# Altium footprint library MB631.PcbLib: 50 footprints (part 3 of 4)
Each footprint in its own frame and in the unit in brackets; x right, y up, seen from the top. Pads: shape width x height; smd on the part's side, far side on the other; paste and mask are expansions set on the pad; w line width, h text height; cw(c..) or ccw(c..) is an arc to the next point about the centre after c.
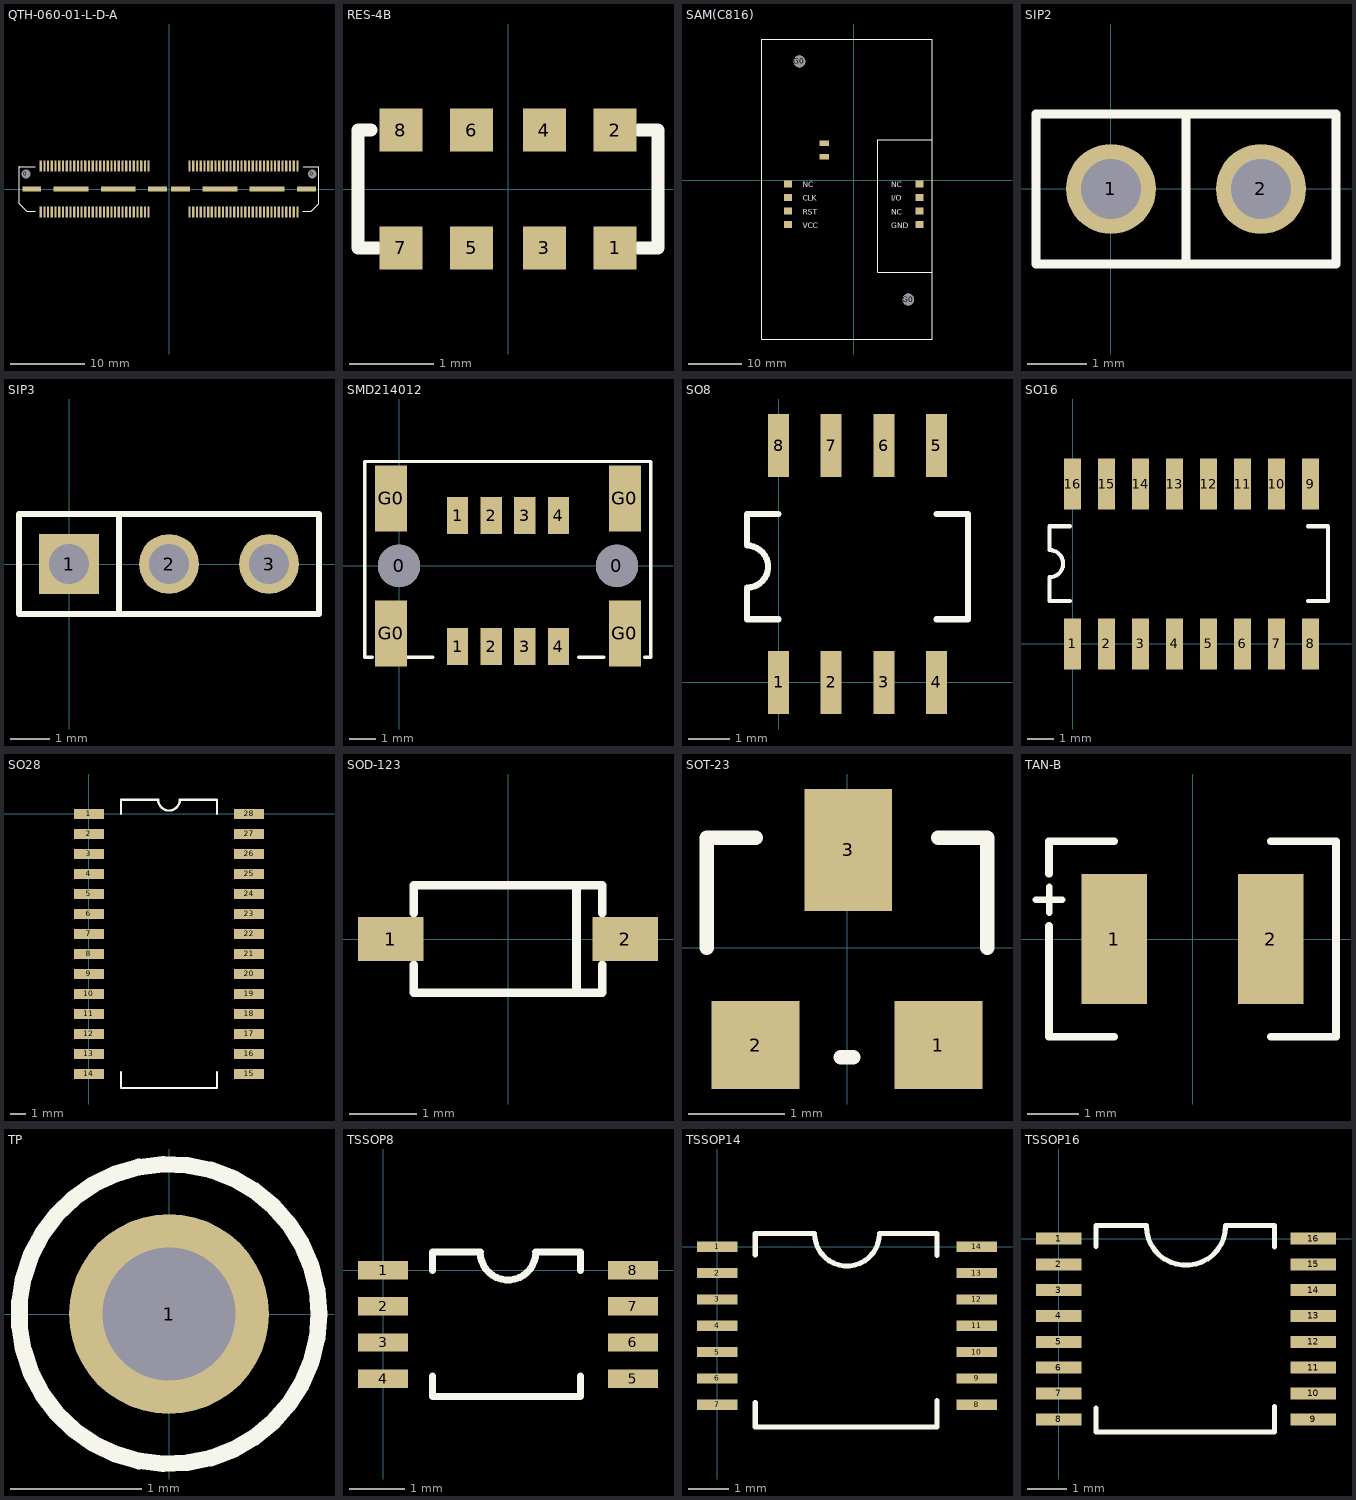
[diagram p2: the footprints below, top view; thin cyan lines are the x and y axes]

## QTH-060-01-L-D-A [mm]
pads (130):
  round 1 hole 1.2 unplated: 0(-19.24,2.035) 0(19.24,2.035)
  rect 0.3x1.45 smd: 1(-17.25,3.085) 2(-17.25,-3.085) 3(-16.75,3.085) 4(-16.75,-3.085) 5(-16.25,3.085) 6(-16.25,-3.085) 7(-15.75,3.085) 8(-15.75,-3.085) 9(-15.25,3.085) 10(-15.25,-3.085) 11(-14.75,3.085) 12(-14.75,-3.085) 13(-14.25,3.085) 14(-14.25,-3.085) 15(-13.75,3.085) 16(-13.75,-3.085) 17(-13.25,3.085) 18(-13.25,-3.085) 19(-12.75,3.085) 20(-12.75,-3.085) 21(-12.25,3.085) 22(-12.25,-3.085) 23(-11.75,3.085) 24(-11.75,-3.085) 25(-11.25,3.085) 26(-11.25,-3.085) 27(-10.75,3.085) 28(-10.75,-3.085) 29(-10.25,3.085) 30(-10.25,-3.085) 31(-9.75,3.085) 32(-9.75,-3.085) 33(-9.25,3.085) 34(-9.25,-3.085) 35(-8.75,3.085) 36(-8.75,-3.085) 37(-8.25,3.085) 38(-8.25,-3.085) 39(-7.75,3.085) 40(-7.75,-3.085) 41(-7.25,3.085) 42(-7.25,-3.085) 43(-6.75,3.085) 44(-6.75,-3.085) 45(-6.25,3.085) 46(-6.25,-3.085) 47(-5.75,3.085) 48(-5.75,-3.085) 49(-5.25,3.085) 50(-5.25,-3.085) 51(-4.75,3.085) 52(-4.75,-3.085) 53(-4.25,3.085) 54(-4.25,-3.085) 55(-3.75,3.085) 56(-3.75,-3.085) 57(-3.25,3.085) 58(-3.25,-3.085) 59(-2.75,3.085) 60(-2.75,-3.085) 61(2.75,3.085) 62(2.75,-3.085) 63(3.25,3.085) 64(3.25,-3.085) 65(3.75,3.085) 66(3.75,-3.085) 67(4.25,3.085) 68(4.25,-3.085) 69(4.75,3.085) 70(4.75,-3.085) 71(5.25,3.085) 72(5.25,-3.085) 73(5.75,3.085) 74(5.75,-3.085) 75(6.25,3.085) 76(6.25,-3.085) 77(6.75,3.085) 78(6.75,-3.085) 79(7.25,3.085) 80(7.25,-3.085) 81(7.75,3.085) 82(7.75,-3.085) 83(8.25,3.085) 84(8.25,-3.085) 85(8.75,3.085) 86(8.75,-3.085) 87(9.25,3.085) 88(9.25,-3.085) 89(9.75,3.085) 90(9.75,-3.085) 91(10.25,3.085) 92(10.25,-3.085) 93(10.75,3.085) 94(10.75,-3.085) 95(11.25,3.085) 96(11.25,-3.085) 97(11.75,3.085) 98(11.75,-3.085) 99(12.25,3.085) 100(12.25,-3.085) 101(12.75,3.085) 102(12.75,-3.085) 103(13.25,3.085) 104(13.25,-3.085) 105(13.75,3.085) 106(13.75,-3.085) 107(14.25,3.085) 108(14.25,-3.085) 109(14.75,3.085) 110(14.75,-3.085) 111(15.25,3.085) 112(15.25,-3.085) 113(15.75,3.085) 114(15.75,-3.085) 115(16.25,3.085) 116(16.25,-3.085) 117(16.75,3.085) 118(16.75,-3.085) 119(17.25,3.085) 120(17.25,-3.085)
  rect 2.54x0.64 smd: G1(-18.445,0.005) G1(1.555,0.005) G4(-1.555,0.005) G4(18.445,0.005)
  rect 4.7x0.64 smd: G2(-13.175,0.005) G2(6.825,0.005) G3(-6.825,0.005) G3(13.175,0.005)
Top Overlay:
  lines w0.127: -20.16,3.005 -18,3.005 ; -20.16,3.028 -20.16,-1.976 -19.144,-2.995 -17.975,-2.995 ; 17.975,-2.995 19.119,-2.995 20.144,-1.99 20.144,3.005 18,3.005

## RES-4B [mil]
pads (8):
  rect 20x20 smd: 1(50,-27.5) 2(50,27.5) 3(17,-27.5) 4(17,27.5) 5(-17,-27.5) 6(-17,27.5) 7(-50,-27.5) 8(-50,27.5)
Top Overlay:
  lines w6: -64,27.5 -70,27.5 -70,-27.5 -61,-27.5 ; 61,-27.5 69,-27.5 ; 61,27.5 70,27.5 70,-27.5

## SAM(C816) [mm]
pads (12):
  rect 1.5x1.3 smd: 1(-12.3,-8.255) 2(-12.3,-5.715) 3(-12.3,-3.175) 4(-12.3,-0.635) 5(12.3,-8.255) 6(12.3,-5.715) 7(12.3,-3.175) 8(12.3,-0.635)
  rect 1.75x1 smd: 17(-5.5,4.445) 18(-5.5,6.985)
  round 2.2 hole 2.2 unplated: G0(-10.16,22.225) G0(10.16,-22.225)
Top Overlay:
  lines w0.127: 14.605,-17.145 4.445,-17.145 4.445,7.62 14.605,7.62 ; -17.145,-29.591 14.605,-29.591 14.605,26.416 -17.145,26.416 -17.145,-29.591
  text "NC" at 6.985,-1.27 h1.02
  text "CLK" at -9.525,-3.81 h1.02
  text "VCC" at -9.525,-8.89 h1.02
  text "NC" at -9.525,-1.27 h1.02
  text "RST" at -9.525,-6.35 h1.02
  text "GND" at 6.985,-8.89 h1.02
  text "NC" at 6.985,-6.35 h1.02
  text "I/O" at 6.985,-3.81 h1.02

## SIP2 [mil]
pads (2):
  round 60 hole 40: 1(0,0) 2(100,0)
Top Overlay:
  lines w6: 50.04,-50.04 50.04,49.96 ; -49.96,-50.04 150.04,-50.04 150.04,49.96 -49.96,49.96 -49.96,-50.04

## SIP3 [mil]
pads (3):
  rect 60x60 hole 40: 1(0,0)
  round 60 hole 40: 2(100,0) 3(200,0)
Top Overlay:
  lines w6: 50,-50 50,50 ; -50,-50 -50,50 250,50 250,-50 -50,-50

## SMD214012 [mm]
pads (14):
  round 1.6 hole 1.6 unplated: 0(0,0) 0(8.23,0)
  rect 0.8x1.4 smd: 1(2.21,-3.05) 1(2.21,1.9) 2(3.48,-3.05) 2(3.48,1.9) 3(4.75,-3.05) 3(4.75,1.9) 4(6.02,-3.05) 4(6.02,1.9)
  rect 1.2x2.5 smd: G0(-0.3,-2.55) G0(-0.3,2.55) G0(8.53,-2.55) G0(8.53,2.55)
Top Overlay:
  lines w0.127: -1,-3.445 -1.295,-3.445 -1.295,3.945 9.5,3.945 9.5,-3.445 9.285,-3.445 ; 0.285,-3.445 1.285,-3.445 ; 6.785,-3.445 7.73,-3.445

## SO8 [mil]
pads (8):
  rect 20x60 smd: 1(0,0) 2(50,0) 3(100,0) 4(150,0) 5(150,225) 6(100,225) 7(50,225) 8(0,225)
Top Overlay:
  lines w6: 0,60 -30,60 -30,90 ccw(c-30,110) -30,130 -30,160 0,160 ; 150,60 180,60 180,160 150,160

## SO16 [mil]
pads (16):
  rect 25x75 smd: 1(0,0) 2(50,0) 3(100,0) 4(150,0) 5(200,0) 6(250,0) 7(300,0) 8(350,0) 9(350,235) 10(300,235) 11(250,235) 12(200,235) 13(150,235) 14(100,235) 15(50,235) 16(0,235)
Top Overlay:
  lines w6: -4,63 -34,63 -34,98 ccw(c-34,118) -34,138 -34,173 -4,173 ; 346,63 376,63 376,173 346,173

## SO28 [mm]
pads (28):
  rect 1.905x0.635 smd: 1(0,0) 2(0,-1.27) 3(0,-2.54) 4(0,-3.81) 5(0,-5.08) 6(0,-6.35) 7(0,-7.62) 8(0,-8.89) 9(0,-10.16) 10(0,-11.43) 11(0,-12.7) 12(0,-13.97) 13(0,-15.24) 14(0,-16.51) 15(10.16,-16.51) 16(10.16,-15.24) 17(10.16,-13.97) 18(10.16,-12.7) 19(10.16,-11.43) 20(10.16,-10.16) 21(10.16,-8.89) 22(10.16,-7.62) 23(10.16,-6.35) 24(10.16,-5.08) 25(10.16,-3.81) 26(10.16,-2.54) 27(10.16,-1.27) 28(10.16,0)
Top Overlay:
  lines w0.152: 2.032,-16.408 2.032,-17.399 8.128,-17.399 8.128,-16.383 ; 2.032,0 2.032,0.889 4.396,0.889 ccw(c5.08,0.889) 5.764,0.889 8.128,0.889 8.128,0

## SOD-123 [mm]
pads (2):
  rect 0.97x0.65 smd: 1(-1.74,0) 2(1.74,0)
Top Overlay:
  lines w0.127: -1.397,-0.381 -1.397,-0.8 0.635,-0.8 1.397,-0.8 1.397,-0.381 ; -1.397,0.381 -1.397,0.8 0.635,0.8 1.397,0.8 1.397,0.381 ; 1.016,-0.8 1.016,0.8

## SOT-23 [mil]
pads (3):
  rect 36x36 smd: 1(37.5,-40) 2(-37.5,-40)
  rect 36x50 smd: 3(0.5,40)
Top Overlay:
  lines w6: -57.5,0 -57.5,45 -37.5,45 ; -2.5,-45 2.5,-45 ; 37.5,45 57.5,45 57.5,0

## TAN-B [mil]
pads (2):
  rect 50x100 smd: 1(-60,0) 2(60,0)
Top Overlay:
  lines w5: -120,30 -100,30 ; -110,20 -110,40
  lines w6: -110,10 -110,-75 -60,-75 ; -110,50 -110,75 ; -100,75 -110,75 ; -60,75 -110,75 ; 60,-75 110,-75 110,75 60,75

## TP [mil]
pads (1):
  round 60 hole 40: 1(0,0)
Top Overlay:
  circle w5: c0,0 r45

## TSSOP8 [mm]
pads (8):
  rect 0.9x0.33 smd: 1(0,0) 2(0,-0.65) 3(0,-1.3) 4(0,-1.95) 5(4.5,-1.95) 6(4.5,-1.3) 7(4.5,-0.65) 8(4.5,0)
Top Overlay:
  lines w0.127: 0.889,-1.905 0.889,-2.275 3.556,-2.275 3.556,-1.905 ; 0.889,0 0.889,0.325 1.75,0.325 ccw(c2.25,0.325) 2.75,0.325 3.556,0.325 3.556,0

## TSSOP14 [mm]
pads (14):
  rect 1x0.25 smd: 1(0,0) 2(0,-0.65) 3(0,-1.3) 4(0,-1.95) 5(0,-2.6) 6(0,-3.25) 7(0,-3.9) 8(6.4,-3.9) 9(6.4,-3.25) 10(6.4,-2.6) 11(6.4,-1.95) 12(6.4,-1.3) 13(6.4,-0.65) 14(6.4,0)
Top Overlay:
  lines w0.127: 0.937,-3.84 0.937,-4.445 5.423,-4.445 5.423,-3.799 ; 0.937,-0.206 0.937,0.325 2.4,0.325 ccw(c3.2,0.325) 4,0.325 5.423,0.325 5.423,-0.216

## TSSOP16 [mm]
pads (16):
  rect 1.15x0.3 smd: 1(0,0) 2(0,-0.65) 3(0,-1.3) 4(0,-1.95) 5(0,-2.6) 6(0,-3.25) 7(0,-3.9) 8(0,-4.55) 9(6.4,-4.55) 10(6.4,-3.9) 11(6.4,-3.25) 12(6.4,-2.6) 13(6.4,-1.95) 14(6.4,-1.3) 15(6.4,-0.65) 16(6.4,0)
Top Overlay:
  lines w0.127: 0.937,-4.27 0.937,-4.875 5.423,-4.875 5.423,-4.229 ; 0.937,-0.206 0.937,0.325 2.2,0.325 ccw(c3.2,0.325) 4.2,0.325 5.423,0.325 5.423,-0.216